# EAGLE library part ADXL345 (library davidbeermann)
ADXL345 Digital 3-Axis Accelerometer The sensor module ADXL345 is a 3-axis accelerometer with low power consumption. This module was purchased at Eckstein Komponente <http://eckstein-shop.de/GY-291-ADXL345-Digital-3-Axis-Gravity-Acceleration-Beschleunigung-Sensor_1>.
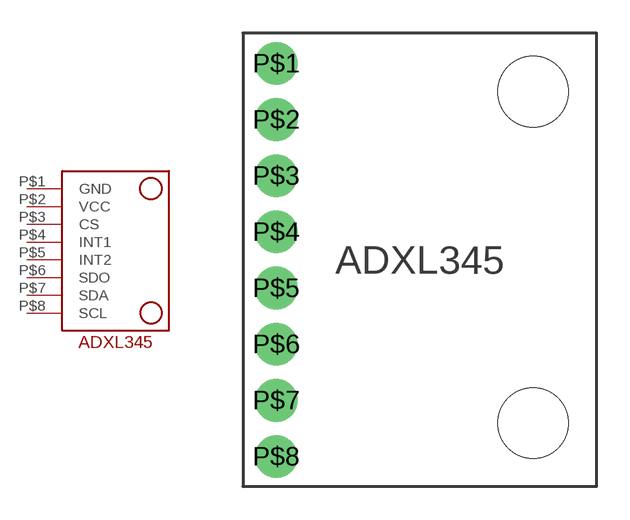
[diagram p0: symbol with the pads of ADXL345; footprint ADXL345]

Designator prefix -

## ADXL345  [ADXL345]
P$1  GND
P$2  VCC
P$3  CS
P$4  INT1
P$5  INT2
P$6  SDO
P$7  SDA
P$8  SCL

## Footprint ADXL345 (pad centres in mm)
drill 0.8 pad 1.93: P$1 0,0; P$2 0,-2.54; P$3 0,-5.08; P$4 0,-7.62; P$5 0,-10.16; P$6 0,-12.7; P$7 0,-15.24; P$8 0,-17.78
hole 3.2 at 11.62,-1.28
hole 3.2 at 11.62,-16.27